# EAGLE library part TUSB2046B_VQFN (library TI)
Digi-Key Part Number 296-21926-1-ND Manufacturer Part Number TUSB2046BIRHBR Manufacturer TI Description IC 4-PORT HUB FOR USB 32-QFN Package / Case 32-VFQFN Exposed Pad Supplier Device Package 32-QFN Exposed Pad (5x5) http://www.digikey.com/product-detail/en/TUSB2046BIRHBR/296-21926-1-ND/1629279 Controller Type USB Hub Interface Serial EEPROM Voltage - Supply 3 V ~ 3.6 V Current - Supply 40mA Operating Temperature -40°C ~ 85°C Mounting Type Surface Mount
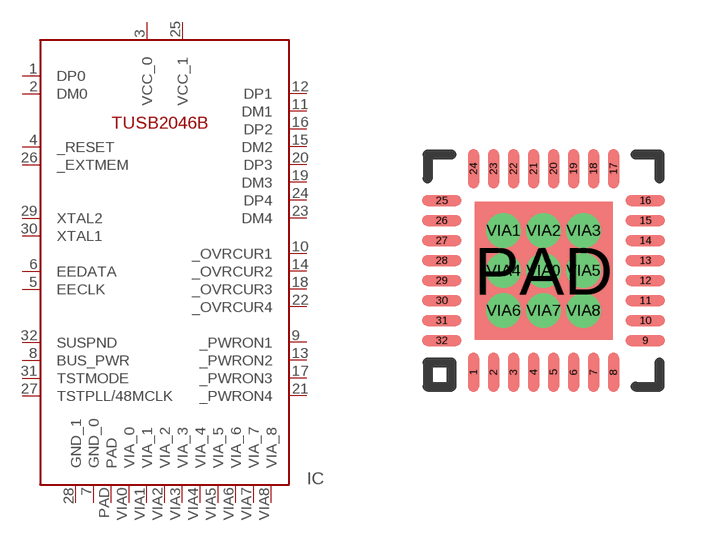
[diagram p30: symbol with the pads of VFQFN-32_EXPOSED_PAD; footprint VFQFN-32_EXPOSED_PAD]

Designator prefix IC

## TUSB2046B_VQFN-VFQFN-32-EXPOSED-PAD  [VFQFN-32_EXPOSED_PAD]
1  DP0
2  DM0
3  VCC_0
4  _RESET
5  EECLK
6  EEDATA
7  GND_0
8  BUS_PWR
9  _PWRON1
10  _OVRCUR1
11  DM1
12  DP1
13  _PWRON2
14  _OVRCUR2
15  DM2
16  DP2
17  _PWRON3
18  _OVRCUR3
19  DM3
20  DP3
21  _PWRON4
22  _OVRCUR4
23  DM4
24  DP4
25  VCC_1
26  _EXTMEM
27  TSTPLL/48MCLK
28  GND_1
29  XTAL2
30  XTAL1
31  TSTMODE
32  SUSPND
PAD  PAD
VIA0  VIA_0
VIA1  VIA_1
VIA2  VIA_2
VIA3  VIA_3
VIA4  VIA_4
VIA5  VIA_5
VIA6  VIA_6
VIA7  VIA_7
VIA8  VIA_8

## Footprint VFQFN-32_EXPOSED_PAD (pad centres in mm)
smd 0.28 x 0.99: 1 -1.75,-2.545; 2 -1.25,-2.545; 3 -0.75,-2.545; 4 -0.25,-2.545; 5 0.25,-2.545; 6 0.75,-2.545; 7 1.25,-2.545; 8 1.75,-2.545; 17 1.75,2.545; 18 1.25,2.545; 19 0.75,2.545; 20 0.25,2.545; 21 -0.25,2.545; 22 -0.75,2.545; 23 -1.25,2.545; 24 -1.75,2.545
smd 0.99 x 0.28: 9 2.545,-1.75; 10 2.545,-1.25; 11 2.545,-0.75; 12 2.545,-0.25; 13 2.545,0.25; 14 2.545,0.75; 15 2.545,1.25; 16 2.545,1.75; 25 -2.545,1.75; 26 -2.545,1.25; 27 -2.545,0.75; 28 -2.545,0.25; 29 -2.545,-0.25; 30 -2.545,-0.75; 31 -2.545,-1.25; 32 -2.545,-1.75
smd 3.45 x 3.45: PAD 0,0
drill 0.35 pad 0.406 round: VIA0 0,0; VIA1 -1,1; VIA2 0,1; VIA3 1,1; VIA4 -1,0; VIA5 1,0; VIA6 -1,-1; VIA7 0,-1; VIA8 1,-1